# Altium footprint library ABM8-272-T3.PcbLib: 1 footprints
Each footprint in its own frame and in the unit in brackets; x right, y up, seen from the top. Pads: shape width x height; smd on the part's side, far side on the other; paste and mask are expansions set on the pad; w line width, h text height; cw(c..) or ccw(c..) is an arc to the next point about the centre after c.
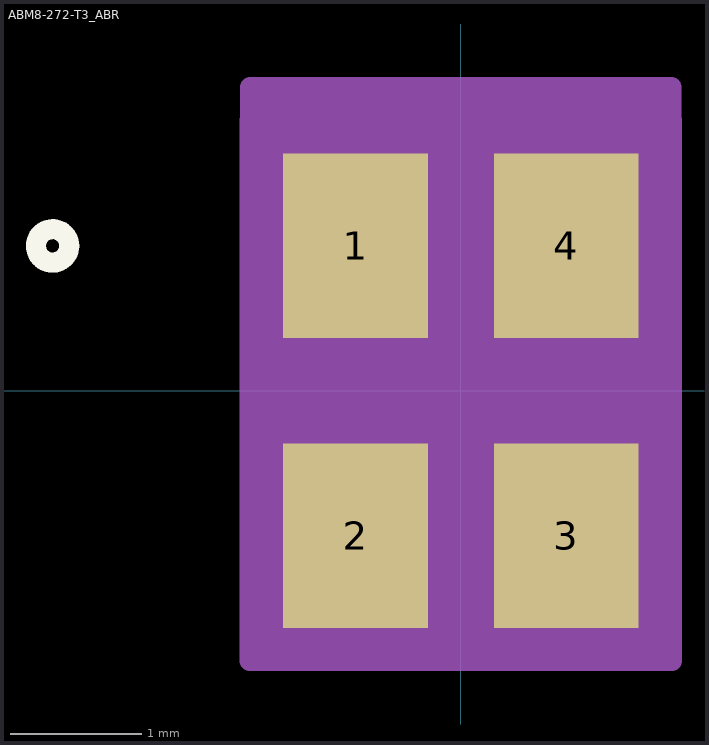
[diagram p0: the footprint, top view; thin cyan lines are the x and y axes]

## ABM8-272-T3_ABR [mm]
pads (4):
  rect 1.1x1.4 smd paste+0 mask+0: 1(-0.8,1.1) 2(-0.8,-1.1) 3(0.8,-1.1) 4(0.8,1.1)
Top Overlay:
  circle w0.152: c-3.102,1.1 r0.127
Mechanical 13:
  circle w0: c-0.25,1.1 r0.076
  lines w0: -0.305,1.702 ccw(c0,1.702) 0.305,1.702
  lines w0.025: -1.346,-1.702 -1.346,1.702 1.346,1.702 1.346,-1.702 -1.346,-1.702
Mechanical 15:
  region: -1.6,-2.054 -1.604,-2.054 -1.604,2.054 -1.6,2.054 -1.6,2.308 1.6,2.308 1.6,2.054 1.604,2.054 1.604,-2.054 1.6,-2.054
  lines w0.152: -1.604,-2.054 -1.6,-2.054 1.6,-2.054 1.604,-2.054 1.604,2.054 1.6,2.054 1.6,2.308 -1.6,2.308 -1.6,2.054 -1.604,2.054 -1.604,-2.054
3D body "ABM8-272-T3_ABR.step": height 0.76, standoff 0, extent -1.346,-1.702 1.346,1.702